# EAGLE library part VISHAY_SI7232DN-T1-GE3 (library Upverter Library)
Mosfet Array 2 N-Channel (Dual) 20V 25A 23W Surface Mount PowerPAK® 1212-8 Dual
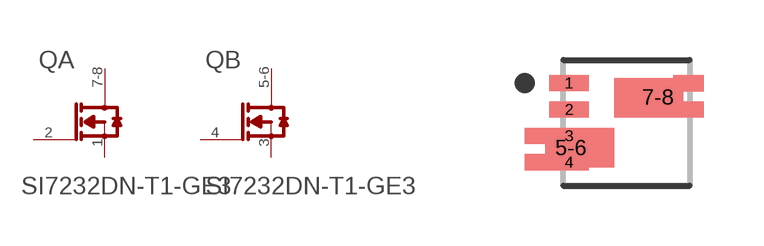
[diagram p0: symbol with the pads of VISHAY_SI7232DN-T1-GE3_0; footprint VISHAY_SI7232DN-T1-GE3_0]

Designator prefix Q; gates A=VISHAY_SI7232DN-T1-GE3_0_0 B=VISHAY_SI7232DN-T1-GE3_0_1

## VISHAY_SI7232DN-T1-GE3VISHAY_SI7232DN-T1-GE3_0_0 (MF: Vishay; MPN: SI7232DN-T1-GE3; automotive: No; centroid_not_specified: No; continuous_drain_current: 10A; datasheet: http://www.vishay.com/docs/68986/si7232dn.pdf; depletion_mode: False; device_class_L1: Discrete Semiconductors; device_class_L2: Transistors; device_class_L3: MOSFETs; digikey_description: MOSFET 2N-CH 20V 25A PPAK 1212-8; digikey_part_number: SI7232DN-T1-GE3CT-ND; drain_to_source_breakdown_voltage: 20V; drain_to_source_resistance: 0.0135Ω; drain_to_source_voltage: 20V; footprint_variant_name_0: Recommended_Land_Pattern; gate_charge_at_vgs: 21nC @ 8V; gate_to_source_voltage: 8V; height: 1.17mm; input_capacitace_at_vds: 1220pF @ 10V; lead_free: Yes; max_forward_diode_voltage: 1.2V; max_junction_temp: +150°C; mfg_package_ident: S16-2667-DUAL; mfg_package_ident_date: 01/2017; mfg_package_ident_rev: M; mouser_description: MOSFET 20V 25A 23W 16.4mohm @ 4.5V; mouser_part_number: 781-SI7232DN-GE3; number_of_N_channels: 2; number_of_channels: 2; package: PowerPAK® 1212-8 Dual; power_dissipation: 2.6W; prefix: Q; pulse_drain_current: 40A; reverse_recovery_charge: 15nC; reverse_recovery_time: 20ns; rohs: Yes; rthja_max: 38°C/W; standoff_height: 0mm; temperature_range_high: +150°C; temperature_range_low: -55°C; threshold_vgs_max: 1V; threshold_vgs_min: 0.4V; transconductance: 47S; turn_off_delay_time: 35ns; turn_on_delay_time: 10ns; typ_forward_diode_voltage: 0.81V; verification_version: 0.0.0.3)  [VISHAY_SI7232DN-T1-GE3_0]
1  A:S1  pas
2  A:G1  pas
3  B:S2  pas
4  B:G2  pas
5-6  B:D2  pas
7-8  A:D1  pas

## Footprint VISHAY_SI7232DN-T1-GE3_0 (pad centres in mm)
Mosfet Array 2 N-Channel (Dual) 20V 25A 23W Surface Mount PowerPAK® 1212-8 Dual
smd 0.991 x 0.406: 1 -1.435,0.991; 2 -1.435,0.33; 3 -1.435,-0.33; 4 -1.435,-0.991
smd 0.87 x 0.87: 5-6 -1.39,-0.634; 7-8 0.781,0.634